# Altium schematic symbol library Schlib1.SchLib: 5 symbols
Pins are listed as number, name and electrical type; pins without a type are passive.

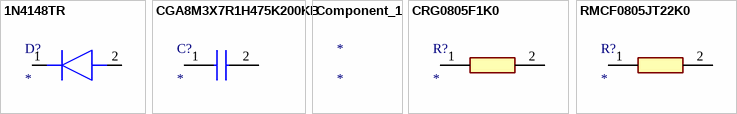
[diagram p0: symbols 1N4148TR to RMCF0805JT22K0]

## 1N4148TR
designator D?
Diode; Manufacturer_Name: Vishay; Manufacturer_Part_Number: 1N4148TR; Datasheet Link: https://www.vishay.com/docs/81857/1n4148.pdf; Mouser Part Number: 78-1N4148; Mouser Price/Stock: https://www.mouser.co.uk/ProductDetail/Vishay-Semiconductors/1N4148TR?qs=HfDODkYFUverVKi%2FJ%2Fe5IA%3D%3D; Arrow Part Number: 1N4148TR; Arrow Price/Stock: https://www.arrow.com/en/products/1n4148tr/vishay?region=nac
footprint DIOAD990W55L340D162
pins: 1 K, 2 A

## CGA8M3X7R1H475K200KB
designator C?
Capacitor; Manufacturer_Name: TDK; Manufacturer_Part_Number: CGA8M3X7R1H475K200KB; Datasheet Link: https://product.tdk.com/system/files/dam/doc/product/capacitor/ceramic/mlcc/catalog/mlcc_automotive_general_en.pdf; Height: 2.2mm; Mouser Part Number: 810-CGA8M3X7R1H475K; Mouser Price/Stock: https://www.mouser.co.uk/ProductDetail/TDK/CGA8M3X7R1H475K200KB?qs=NRhsANhppD%2FbqBrESj9TBg%3D%3D
pins: 1, 2

## Component_1
designator *

## CRG0805F1K0
designator R?
Resistor; Manufacturer_Name: TE Connectivity; Manufacturer_Part_Number: CRG0805F1K0; Datasheet Link: http://www.te.com/commerce/DocumentDelivery/DDEController?Action=showdoc&DocId=Customer+Drawing%7F1623109%7FBA%7Fpdf%7FEnglish%7FENG_CD_1623109_BA.pdf%7F1623109-1; Height: 0.65mm; Mouser Part Number: N/A; Mouser Price/Stock: https://www.mouser.co.uk/ProductDetail/TE-Connectivity/CRG0805F1K0?qs=DfH2yQaBz6vHNzhtcFzCDQ%3D%3D; Arrow Part Number: CRG0805F1K0; Arrow Price/Stock: https://www.arrow.com/en/products/crg0805f1k0/te-connectivity?region=nac
footprint RESC2012X65N
pins: 1, 2

## RMCF0805JT22K0
designator R?
Resistor; Manufacturer_Name: Stackpole Electronics; Manufacturer_Part_Number: RMCF0805JT22K0; Datasheet Link: https://cs.seielect.com/catalog/SEI-RMCF_RMCP.pdf; Height: 0.65mm
footprint RESC2012X65N
pins: 1, 2